# Altium footprint library TEENSY_COMPONENTS_FOOTPRINTS.PcbLib: 22 footprints (part 1 of 2)
Each footprint in its own frame and in the unit in brackets; x right, y up, seen from the top. Pads: shape width x height; smd on the part's side, far side on the other; paste and mask are expansions set on the pad; w line width, h text height; cw(c..) or ccw(c..) is an arc to the next point about the centre after c.
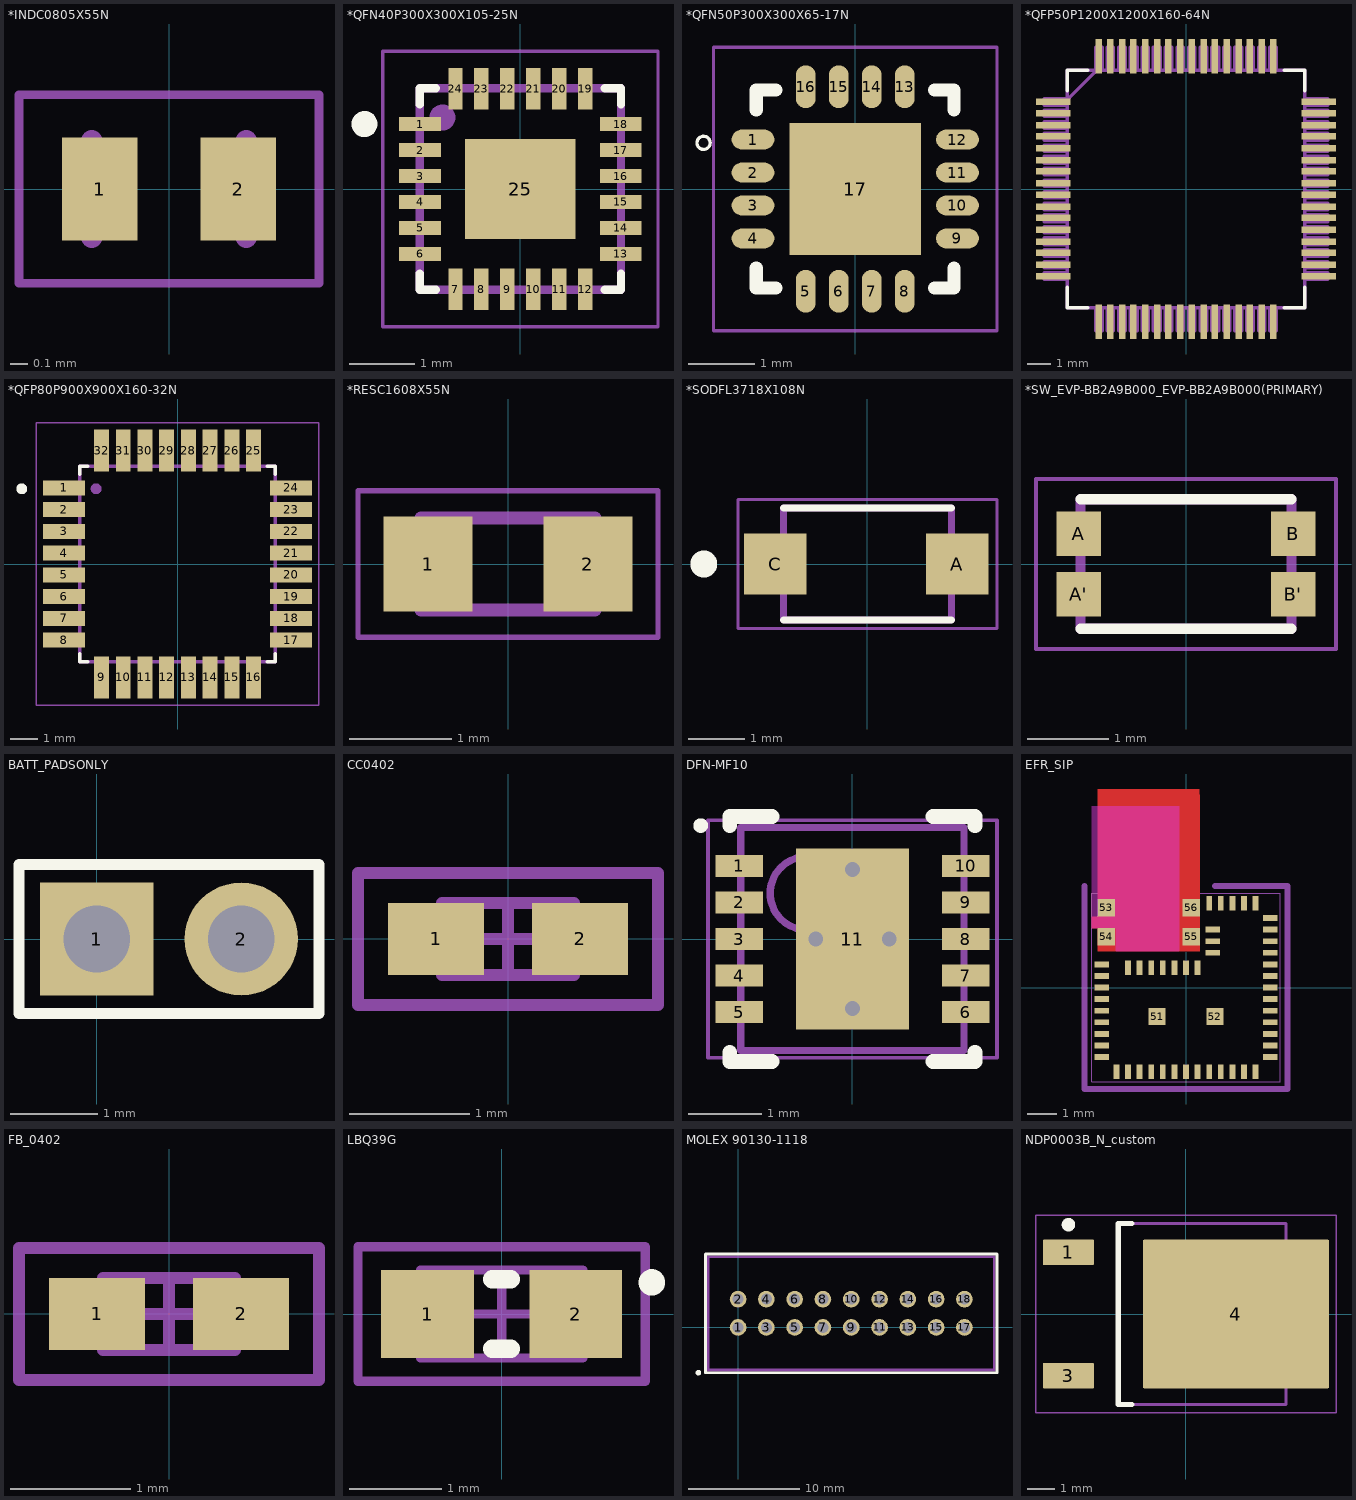
[diagram p0: the footprints below, top view; thin cyan lines are the x and y axes]

## *INDC0805X55N [mm]
pads (2):
  rect 0.44x0.6 smd: 1(-0.405,0) 2(0.405,0)
Mechanical 4:
  lines w0.127: -0.45,-0.28 -0.45,0.28 -0.45,-0.28 ; 0.45,-0.28 0.45,0.28 0.45,-0.28
Mechanical 16:
  lines w0.05: -0.875,-0.55 0.875,-0.55 0.875,0.55 -0.875,0.55 -0.875,-0.55

## *QFN40P300X300X105-25N [mm]
pads (25):
  rect 0.64x0.22 smd: 1(-1.545,1) 2(-1.545,0.6) 3(-1.545,0.2) 4(-1.545,-0.2) 5(-1.545,-0.6) 6(-1.545,-1) 13(1.545,-1) 14(1.545,-0.6) 15(1.545,-0.2) 16(1.545,0.2) 17(1.545,0.6) 18(1.545,1)
  rect 0.22x0.64 smd: 7(-1,-1.545) 8(-0.6,-1.545) 9(-0.2,-1.545) 10(0.2,-1.545) 11(0.6,-1.545) 12(1,-1.545) 19(1,1.545) 20(0.6,1.545) 21(0.2,1.545) 22(-0.2,1.545) 23(-0.6,1.545) 24(-1,1.545)
  rect 1.7x1.54 smd: 25(0,0)
Top Overlay:
  circle w0.2: c-2.4,1 r0.1
  lines w0.127: -1.55,-1.3 -1.55,-1.55 -1.3,-1.55 ; -1.55,1.3 -1.55,1.55 -1.3,1.55 ; 1.3,-1.55 1.55,-1.55 1.55,-1.3 ; 1.3,1.55 1.55,1.55 1.55,1.3
Top Paste:
  region: 0.08,-0.08 0.69,-0.08 0.69,-0.611 0.08,-0.611
  region: -0.691,-0.08 -0.08,-0.08 -0.08,-0.611 -0.691,-0.611
  region: 0.08,0.61 0.69,0.61 0.69,0.08 0.08,0.08
  region: -0.691,0.61 -0.08,0.61 -0.08,0.08 -0.691,0.08
Mechanical 4:
  circle w0.2: c-1.2,1.1 r0.1
  circle w0.2: c-1.2,1.1 r0.1
  lines w0.127: -1.55,-1.55 -1.55,1.55 ; -1.55,-1.55 1.55,-1.55 ; -1.55,-1.55 -1.55,1.55 ; -1.55,-1.55 1.55,-1.55 ; -1.55,1.55 1.55,1.55 ; -1.55,1.55 1.55,1.55 ; 1.55,-1.55 1.55,1.55 ; 1.55,-1.55 1.55,1.55
Mechanical 16:
  lines w0.05: -2.12,-2.12 -2.12,2.12 2.12,2.12 2.12,-2.12 -2.12,-2.12
3D body: height 1.1, standoff 0, extent 5.35,2.425 5.35,2.425
3D body "User Library-MPU9250.step": height 1, standoff -0.05, extent -1.51,-1.525 1.51,1.495

## *QFN50P300X300X65-17N [mm]
pads (17):
  oval 0.65x0.3 smd: 1(-1.55,0.75) 2(-1.55,0.25) 3(-1.55,-0.25) 4(-1.55,-0.75) 9(1.55,-0.75) 10(1.55,-0.25) 11(1.55,0.25) 12(1.55,0.75)
  oval 0.3x0.65 smd: 5(-0.75,-1.55) 6(-0.25,-1.55) 7(0.25,-1.55) 8(0.75,-1.55) 13(0.75,1.55) 14(0.25,1.55) 15(-0.25,1.55) 16(-0.75,1.55)
  rect 2x2 smd: 17(0,0)
Top Overlay:
  circle w0.05: c-2.3,0.7 r0.1
  lines w0.2: -1.5,-1.2 -1.5,-1.5 -1.2,-1.5 ; -1.5,1.2 -1.5,1.5 -1.2,1.5 ; 1.2,-1.5 1.5,-1.5 1.5,-1.2 ; 1.2,1.5 1.5,1.5 1.5,1.2
Mechanical 16:
  lines w0.05: -2.15,-2.15 -2.15,2.15 2.15,2.15 2.15,-2.15 -2.15,-2.15
3D body "User Library-QFN50P300X300-6x2.step": height 1.1, standoff 0, extent -1.5,-1.55 1.5,1.45

## *QFP50P1200X1200X160-64N [mil]
pads (64):
  rect 58x11 smd: 1(-225,148) 2(-225,128) 3(-225,108) 4(-225,89) 5(-225,69) 6(-225,49) 7(-225,30) 8(-225,10) 9(-225,-10) 10(-225,-30) 11(-225,-49) 12(-225,-69) 13(-225,-89) 14(-225,-108) 15(-225,-128) 16(-225,-148) 33(225,-148) 34(225,-128) 35(225,-108) 36(225,-89) 37(225,-69) 38(225,-49) 39(225,-30) 40(225,-10) 41(225,10) 42(225,30) 43(225,49) 44(225,69) 45(225,89) 46(225,108) 47(225,128) 48(225,148)
  rect 11x58 smd: 17(-148,-225) 18(-128,-225) 19(-108,-225) 20(-89,-225) 21(-69,-225) 22(-49,-225) 23(-30,-225) 24(-10,-225) 25(10,-225) 26(30,-225) 27(49,-225) 28(69,-225) 29(89,-225) 30(108,-225) 31(128,-225) 32(148,-225) 49(148,225) 50(128,225) 51(108,225) 52(89,225) 53(69,225) 54(49,225) 55(30,225) 56(10,225) 57(-10,225) 58(-30,225) 59(-49,225) 60(-69,225) 61(-89,225) 62(-108,225) 63(-128,225) 64(-148,225)
Top Overlay:
  lines w6: -201,-166 -201,-201 -166,-201 ; -201,166 -201,201 -166,201 ; 166,-201 201,-201 201,-166 ; 166,201 201,201 201,166
Mechanical 13:
  drawing of 526 lines, arcs and shapes, not listed
3D body: height 10, standoff 0, extent -64.96,9.84 -64.96,9.84
3D body "User Library-LQFP64-2.STEP": height 63.78, standoff -0.28, extent -239.04,-240.02 239.05,238.06

## *QFP80P900X900X160-32N [mm]
pads (32):
  rect 1.56x0.55 smd: 1(-4.18,2.8) 2(-4.18,2) 3(-4.18,1.2) 4(-4.18,0.4) 5(-4.18,-0.4) 6(-4.18,-1.2) 7(-4.18,-2) 8(-4.18,-2.8) 17(4.18,-2.8) 18(4.18,-2) 19(4.18,-1.2) 20(4.18,-0.4) 21(4.18,0.4) 22(4.18,1.2) 23(4.18,2) 24(4.18,2.8)
  rect 0.55x1.56 smd: 9(-2.8,-4.18) 10(-2,-4.18) 11(-1.2,-4.18) 12(-0.4,-4.18) 13(0.4,-4.18) 14(1.2,-4.18) 15(2,-4.18) 16(2.8,-4.18) 25(2.8,4.18) 26(2,4.18) 27(1.2,4.18) 28(0.4,4.18) 29(-0.4,4.18) 30(-1.2,4.18) 31(-2,4.18) 32(-2.8,4.18)
Top Overlay:
  circle w0.2: c-5.74,2.77 r0.1
  lines w0.127: -3.6,-3.3 -3.6,-3.6 -3.3,-3.6 ; -3.6,3.3 -3.6,3.6 -3.3,3.6 ; 3.3,-3.6 3.6,-3.6 3.6,-3.3 ; 3.3,3.6 3.6,3.6 3.6,3.3
Mechanical 4:
  circle w0.2: c-3,2.77 r0.1
  circle w0.2: c-3,2.77 r0.1
  lines w0.127: -3.6,-3.6 -3.6,3.6 ; -3.6,-3.6 3.6,-3.6 ; -3.6,-3.6 -3.6,3.6 ; -3.6,-3.6 3.6,-3.6 ; -3.6,3.6 3.6,3.6 ; -3.6,3.6 3.6,3.6 ; 3.6,-3.6 3.6,3.6 ; 3.6,-3.6 3.6,3.6
Mechanical 16:
  lines w0.05: -5.21,-5.21 -5.21,5.21 5.21,5.21 5.21,-5.21 -5.21,-5.21
3D body: height 0.76, standoff 0, extent -3.556,-3.556 3.556,3.556

## *RESC1608X55N [mm]
pads (2):
  rect 0.87x0.93 smd: 1(-0.78,0) 2(0.78,0)
Mechanical 4:
  lines w0.127: -0.85,-0.45 0.85,-0.45 ; -0.85,-0.45 -0.85,0.45 ; -0.85,-0.45 0.85,-0.45 ; -0.85,-0.45 -0.85,0.45 ; -0.85,0.45 0.85,0.45 ; -0.85,0.45 0.85,0.45 ; 0.85,-0.45 0.85,0.45 ; 0.85,-0.45 0.85,0.45
Mechanical 16:
  lines w0.05: -1.465,-0.715 1.465,-0.715 1.465,0.715 -1.465,0.715 -1.465,-0.715
3D body: height 0.46, standoff 0, extent -0.889,-0.381 0.889,0.381

## *SODFL3718X108N [mm]
pads (2):
  rect 1.12x1.08 smd: A(1.6,0) C(-1.645,0)
Top Overlay:
  circle w0.24: c-2.921,0 r0.12
  lines w0.127: -1.5,-1 1.5,-1 ; -1.5,1 1.5,1
Mechanical 4:
  lines w0.127: -1.5,-1 1.5,-1 ; -1.5,-1 -1.5,1 ; -1.5,-1 1.5,-1 ; -1.5,-1 -1.5,1 ; -1.5,1 1.5,1 ; -1.5,1 1.5,1 ; 1.5,-1 1.5,1 ; 1.5,-1 1.5,1
Mechanical 16:
  lines w0.05: -2.31,-1.15 2.31,-1.15 2.31,1.15 -2.31,1.15 -2.31,-1.15
3D body: height 0.97, standoff 0, extent -1.524,-1.016 -1.143,1.016
3D body: height 0.97, standoff 0, extent -1.143,-1.016 1.524,1.016

## *SW_EVP-BB2A9B000_EVP-BB2A9B000(PRIMARY) [mm]
pads (4):
  rect 0.55x0.55 smd: A(-1.325,0.375) A'(-1.325,-0.375) B(1.325,0.375) B'(1.325,-0.375)
Top Overlay:
  lines w0.127: -1.3,-0.8 1.3,-0.8 ; -1.3,0.8 1.3,0.8
Top Paste:
  region: 1.1,-0.15 1.55,-0.15 1.55,-0.6 1.1,-0.6
  region: 1.1,0.6 1.55,0.6 1.55,0.15 1.1,0.15
  region: -1.55,-0.15 -1.1,-0.15 -1.1,-0.6 -1.55,-0.6
  region: -1.55,0.6 -1.1,0.6 -1.1,0.15 -1.55,0.15
Mechanical 4:
  lines w0.127: -1.3,-0.8 -1.3,0.8 ; -1.3,-0.8 1.3,-0.8 ; -1.3,-0.8 -1.3,0.8 ; -1.3,-0.8 1.3,-0.8 ; -1.3,0.8 1.3,0.8 ; -1.3,0.8 1.3,0.8 ; 1.3,-0.8 1.3,0.8 ; 1.3,-0.8 1.3,0.8
Mechanical 16:
  lines w0.05: -1.85,-1.05 -1.85,1.05 1.85,1.05 1.85,-1.05 -1.85,-1.05
3D body "User Library-EVPBB2A9B000.step": height 0.51, standoff -0.03, extent -1.501,-0.914 1.499,0.886

## BATT_PADSONLY [mil] "LIPO Battery Connector - through hole pads only"
pads (2):
  rect 51x51 hole 30: 1(0,0)
  round 51 hole 30: 2(65,0)
Top Overlay:
  lines w5: -35,-33.46 -35,-16.73 -35,16.73 -35,33.46 100,33.46 100,-33.46 -35,-33.46

## CC0402 [mm] "Chip Capacitor, Body 1.0x0.5mm, IPC Medium Density"
height 0.6
pads (2):
  rect 0.8x0.6 smd: 1(-0.6,0) 2(0.6,0)
Mechanical 13:
  lines w0.1: -0.55,-0.3 -0.55,0.3 0.55,0.3 0.55,-0.3 -0.55,-0.3
Mechanical 15:
  lines w0.1: -0.3,0 0.3,0 ; 0,-0.3 0,0.3 ; -1.25,-0.55 -1.25,0.55 1.25,0.55 1.25,-0.55 -1.25,-0.55
3D body: height 0.6, standoff 0, extent -0.55,-0.3 0.55,0.3

## DFN-MF10 [mm] "SON, 10-Leads, Body 3x3mm, Pitch 0.5mm, Microchip Recommended"
height 1
pads (11):
  rect 0.65x0.3 smd: 1(-1.55,1) 2(-1.55,0.5) 3(-1.55,0) 4(-1.55,-0.5) 5(-1.55,-1) 6(1.55,-1) 7(1.55,-0.5) 8(1.55,0) 9(1.55,0.5) 10(1.55,1)
  rect 1.55x2.48 smd: 11(0,0)
via 0,-0.95 diameter 0.5 hole 0.2
via 0,0.95 diameter 0.5 hole 0.2
via 0.5,0 diameter 0.5 hole 0.2
via -0.5,0 diameter 0.5 hole 0.2
Top Overlay:
  circle w0.1: c-2.075,1.55 r0.05
  lines w0.2: -1.675,-1.55 -1.675,-1.675 -1.1,-1.675 ; -1.675,1.55 -1.675,1.675 -1.1,1.675 ; 1.1,-1.675 1.675,-1.675 1.675,-1.55 ; 1.1,1.675 1.675,1.675 1.675,1.55
Mechanical 13:
  circle w0.1: c-0.625,0.625 r0.5
  lines w0.1: -1.525,-1.525 1.525,-1.525 1.525,1.525 -1.525,1.525 -1.525,-1.525
Mechanical 15:
  lines w0.05: -1.975,-1.625 -1.975,1.625 1.975,1.625 1.975,-1.625 -1.975,-1.625
  lines w0.1: -0.5,0 0.5,0 ; 0,-0.5 0,0.5
3D body: height 1, standoff 0, extent -1.524,-1.524 1.524,1.524

## EFR_SIP [mm] "TI VSSOP 8"
height 0.9
pads (56):
  rect 0.5x0.2 smd mask+0.015: 1(-2.9,0.8) 2(-2.9,0.4) 3(-2.9,0) 4(-2.9,-0.4) 5(-2.9,-0.8) 6(-2.9,-1.2) 7(-2.9,-1.6) 8(-2.9,-2) 9(-2.9,-2.4) 23(2.9,-2.4) 24(2.9,-2) 25(2.9,-1.6) 26(2.9,-1.2) 27(2.9,-0.8) 28(2.9,-0.4) 29(2.9,0) 30(2.9,0.4) 31(2.9,0.8) 32(2.9,1.2) 33(2.9,1.6) 34(2.9,2) 35(2.9,2.4) 41(0.925,2) 42(0.925,1.6) 43(0.925,1.2)
  rect 0.2x0.5 smd mask+0.015: 10(-2.4,-2.9) 11(-2,-2.9) 12(-1.6,-2.9) 13(-1.2,-2.9) 14(-0.8,-2.9) 15(-0.4,-2.9) 16(0,-2.9) 17(0.4,-2.9) 18(0.8,-2.9) 19(1.2,-2.9) 20(1.6,-2.9) 21(2,-2.9) 22(2.4,-2.9) 36(2.4,2.9) 37(2,2.9) 38(1.6,2.9) 39(1.2,2.9) 40(0.8,2.9) 44(0.4,0.675) 45(0,0.675) 46(-0.4,0.675) 47(-0.8,0.675) 48(-1.2,0.675) 49(-1.6,0.675) 50(-2,0.675)
  rect 0.6x0.6 smd mask+0.015: 51(-1,-1) 52(1,-1) 53(-2.75,2.75) 54(-2.75,1.75) 55(0.175,1.75) 56(0.175,2.75)
Top Layer:
  region: -0.225,2.45 0.475,2.45 0.475,6.65 -0.225,6.65
  region: -3.05,6.25 0.463,6.25 0.463,6.85 -3.05,6.85
  region: -3.05,2.45 -2.425,2.45 -2.425,6.65 -3.05,6.65
  pour cut-out: -0.225,1.25 -2.425,1.25 -2.425,2.05 -3.25,2.05 -3.25,2.45 -2.425,2.45 -2.425,6.25 -0.225,6.25
  region: -0.225,3.05 -0.225,1.25 0.475,1.25 0.475,3.05
  region: -3.05,2.05 -3.05,1.25 -2.425,1.25 -2.425,2.05
Keep-Out Layer:
  pour cut-out: -3.25,6.25 -0.225,6.25 -0.225,1.25 -2.425,1.25 -2.425,2.05 -3.25,2.05 -3.25,2.45
Mechanical 11:
  lines w0.2: -3.5,3.5 -3.5,-3.5 3.5,-3.5 3.5,3.5 1,3.5
Mechanical 15:
  lines w0.025: -3.25,-3.25 3.25,-3.25 3.25,3.25 -3.25,3.25 -3.25,-3.25
3D body: height 1.4, standoff 0, extent -3.25,-3.25 3.25,3.25
3D body: height 9, standoff -9, extent 0,0.675 0,0.675
3D body: height 9, standoff -9, extent -4.699,4.826 -4.699,4.826

## FB_0402 [mm] "Ferrite Bead, Body 1.0x0.5mm, IPC Medium Density"
height 0.6
pads (2):
  rect 0.8x0.6 smd: 1(-0.6,0) 2(0.6,0)
Mechanical 13:
  lines w0.1: -0.55,-0.3 -0.55,0.3 0.55,0.3 0.55,-0.3 -0.55,-0.3
Mechanical 15:
  lines w0.1: -0.3,0 0.3,0 ; 0,-0.3 0,0.3 ; -1.25,-0.55 -1.25,0.55 1.25,0.55 1.25,-0.55 -1.25,-0.55
3D body: height 0.6, standoff 0, extent -0.55,-0.3 0.55,0.3

## LBQ39G [mm] "Osram Chip LED"
pads (2):
  rect 1x0.95 smd: 1(-0.8,0) 2(0.8,0)
Top Overlay:
  circle w0.152: c1.62,0.341 r0.066
  lines w0.2: -0.1,-0.375 0.1,-0.375 ; -0.1,0.375 0.1,0.375
Mechanical 13:
  lines w0.1: -0.875,-0.475 0.875,-0.475 0.875,0.475 -0.875,0.475 -0.875,-0.475
Mechanical 15:
  lines w0.1: -0.475,0 0.475,0 ; 0,-0.475 0,0.475 ; -1.55,-0.725 1.55,-0.725 1.55,0.725 -1.55,0.725 -1.55,-0.725
3D body "User Library-LTST-C190TBKT.STEP": height 0.9, standoff 0, extent -0.828,-0.449 0.872,0.451

## MOLEX 90130-1118 [mm] "9x2 male shrouded pin header"
pads (18):
  round 1.5 hole 1 paste+0: 1(0,0) 2(0,2.54) 3(2.54,0) 4(2.54,2.54) 5(5.08,0) 6(5.08,2.54) 7(7.62,0) 8(7.62,2.54) 9(10.16,0) 10(10.16,2.54) 11(12.7,0) 12(12.7,2.54) 15(17.78,0) 16(17.78,2.54) 17(20.32,0) 18(20.32,2.54)
  round 1.5 hole 1: 13(15.24,0) 14(15.24,2.54)
Top Overlay:
  lines w0.254: -3.436,-4.024 ccw(c-3.556,-4.064) -3.429,-4.064 ; -2.921,-4.064 23.241,-4.064 23.241,6.604 -2.921,6.604 -2.921,-4.064
Mechanical 15:
  lines w0.254: -2.667,-3.81 22.987,-3.81 22.987,6.35 -2.667,6.35 -2.667,-3.81
3D body "901301118.stp": height 10.95, standoff -2.85, extent -2.44,-3.605 22.76,6.145

## NDP0003B_N_custom [mm] "D-PAK, 4-Leads, Body 6.1x6.6mm, Pitch 2.29mm, Lead Span 9.7mm, IPC Medium Density"
height 2.38
pads (3):
  rrect11% 1.9x0.95 smd: 1(-4.35,2.28) 3(-4.35,-2.28)
  rrect2% 6.9x5.5 smd: 4(1.85,0)
Top Overlay:
  circle w0.25: c-4.35,3.305 r0.125
  lines w0.2: -2,-3.35 -2.5,-3.35 -2.5,3.35 -2,3.35
Mechanical 13:
  lines w0.1: -2.5,-3.35 -2.5,3.35 3.7,3.35 3.7,-3.35 -2.5,-3.35
Mechanical 15:
  lines w0.05: -5.55,-3.65 -5.55,3.65 5.55,3.65 5.55,-3.65 -5.55,-3.65
  lines w0.1: -0.5,0 0.5,0 ; 0,-0.5 0,0.5
3D body: height 1.14, standoff 0, extent 3.683,-2.54 5.08,2.54
3D body: height 2.38, standoff 0, extent -2.413,-3.349 3.699,3.349
3D body: height 0.25, standoff 0, extent -4.445,1.905 -2.413,2.54
3D body: height 0.25, standoff 0, extent -4.318,-2.604 -2.286,-1.969